# EAGLE library part ADC121C021 (library IC)
ADC121C021/ADC121C021Q/ADC121C027 I2C-Compatible, 12-Bit Analog-to-Digital Converter with Alert Function
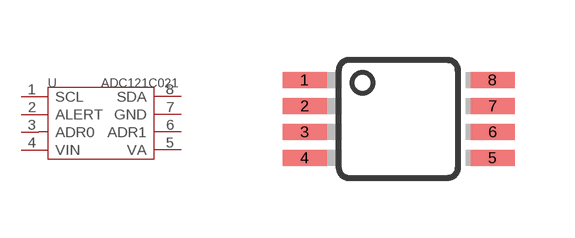
[diagram p67: symbol with the pads of MSOP8; footprint MSOP8]

Designator prefix U

## ADC121C021'CIMM/NP8'  [MSOP8]
1  SCL
2  ALERT
3  ADR0
4  VIN
5  VA
6  ADR1
7  GND
8  SDA

## Footprint MSOP8 (pad centres in mm)
8M, 8-Lead, 0.118" Wide, Miniature Small Outline Package MSOP 8M-Package doc1097.pdf
smd 1.1 x 0.4: 1 -2.477,0.975; 2 -2.477,0.325; 3 -2.477,-0.325; 4 -2.477,-0.975; 5 2.223,-0.975; 6 2.223,-0.325; 7 2.223,0.325; 8 2.223,0.975